# EAGLE library part POWER-BRICK-CONNECTOR (library MotherboardParts)
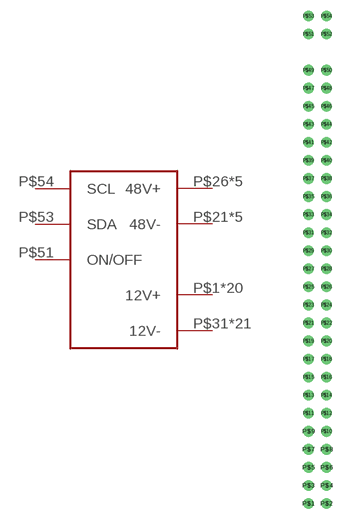
[diagram p0: symbol with the pads of POWER-BRICK-CONNECTOR; footprint POWER-BRICK-CONNECTOR]

Designator prefix -

## POWER-BRICK-CONNECTOR  [POWER-BRICK-CONNECTOR]
P$1  12V+
P$2  12V+
P$3  12V+
P$4  12V+
P$5  12V+
P$6  12V+
P$7  12V+
P$8  12V+
P$9  12V+
P$10  12V+
P$11  12V+
P$12  12V+
P$13  12V+
P$14  12V+
P$15  12V+
P$16  12V+
P$17  12V+
P$18  12V+
P$19  12V+
P$20  12V+
P$21  48V-
P$22  48V-
P$23  48V-
P$24  48V-
P$25  48V-
P$26  48V+
P$27  48V+
P$28  48V+
P$29  48V+
P$30  48V+
P$31  12V-
P$32  12V-
P$33  12V-
P$34  12V-
P$35  12V-
P$36  12V-
P$37  12V-
P$38  12V-
P$39  12V-
P$40  12V-
P$41  12V-
P$42  12V-
P$43  12V-
P$44  12V-
P$45  12V-
P$46  12V-
P$47  12V-
P$48  12V-
P$49  12V-
P$50  12V-
P$51  ON/OFF
P$52  12V-
P$53  SDA
P$54  SCL

## Footprint POWER-BRICK-CONNECTOR (pad centres in mm)
drill 1: P$1 -1.27,-34.29; P$2 1.27,-34.29; P$3 -1.27,-31.75; P$4 1.27,-31.75; P$5 -1.27,-29.21; P$6 1.27,-29.21; P$7 -1.27,-26.67; P$8 1.27,-26.67; P$9 -1.27,-24.13; P$10 1.27,-24.13; P$11 -1.27,-21.59; P$12 1.27,-21.59; P$13 -1.27,-19.05; P$14 1.27,-19.05; P$15 -1.27,-16.51; P$16 1.27,-16.51; P$17 -1.27,-13.97; P$18 1.27,-13.97; P$19 -1.27,-11.43; P$20 1.27,-11.43; P$21 -1.27,-8.89; P$22 1.27,-8.89; P$23 -1.27,-6.35; P$24 1.27,-6.35; P$25 -1.27,-3.81; P$26 1.27,-3.81; P$27 -1.27,-1.27; P$28 1.27,-1.27; P$29 -1.27,1.27; P$30 1.27,1.27; P$31 -1.27,3.81; P$32 1.27,3.81; P$33 -1.27,6.35; P$34 1.27,6.35; P$35 -1.27,8.89; P$36 1.27,8.89; P$37 -1.27,11.43; P$38 1.27,11.43; P$39 -1.27,13.97; P$40 1.27,13.97; P$41 -1.27,16.51; P$42 1.27,16.51; P$43 -1.27,19.05; P$44 1.27,19.05; P$45 -1.27,21.59; P$46 1.27,21.59; P$47 -1.27,24.13; P$48 1.27,24.13; P$49 -1.27,26.67; P$50 1.27,26.67; P$51 -1.27,31.75; P$52 1.27,31.75; P$53 -1.27,34.29; P$54 1.27,34.29